# EAGLE library part LAA108 (library CMU-ArtFab)
LAA108 Solid State Relay (SSR) Dual Single-Pole, Normally Open http://www.mouser.com/ds/2/205/LAA108-230841.pdf
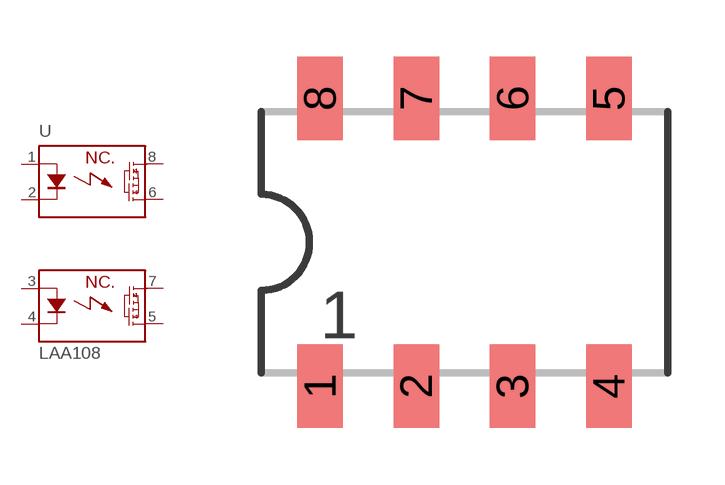
[diagram p17: symbol with the pads of DIL08_SMD; footprint DIL08_SMD]

Designator prefix -

## LAA108  [DIL08_SMD]
1  CONTROL+_1  pas
2  CONTROL-_1  pas
3  CONTROL+_2  pas
4  CONTROL-_2  pas
5  LOAD2_2  pas
6  LOAD2_1  pas
7  LOAD1_2  pas
8  LOAD1_1  pas

## Footprint DIL08_SMD (pad centres in mm)
smd 1.2 x 2.2: 1 -3.81,-3.8; 2 -1.27,-3.8; 3 1.27,-3.8; 4 3.81,-3.8; 5 3.81,3.8; 6 1.27,3.8; 7 -1.27,3.8; 8 -3.81,3.8